# EAGLE library part MAX86171 (library MAX86171)
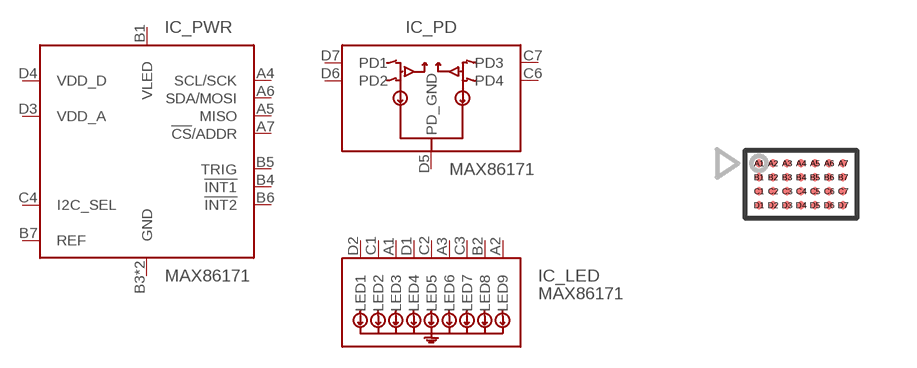
[diagram p0: symbol with the pads of WLP-BGA-7X4-0.35; footprint WLP-BGA-7X4-0.35]

Designator prefix IC; gates _PWR=MAX86171_PWR _PD=MAX86171_PD _LED=MAX86171_LED

## MAX86171 (MF: Maxim Integrated; MPN: MAX86171ENI+), MAX86171T (MF: Maxim Integrated; MPN: MAX86171ENI+T)  [WLP-BGA-7X4-0.35]
A1  _LED:LED3
A2  _LED:LED9
A3  _LED:LED6
A4  _PWR:SCL/SCK
A5  _PWR:MISO
A6  _PWR:SDA/MOSI
A7  _PWR:!CS!/ADDR
B1  _PWR:VLED
B2  _LED:LED8
B3  _PWR:GND  pwr
B4  _PWR:!INT1
B5  _PWR:TRIG  in
B6  _PWR:!INT2
B7  _PWR:REF
C1  _LED:LED2
C2  _LED:LED5
C3  _LED:LED7
C4  _PWR:I2C_SEL
C5  _PWR:GND  pwr
C6  _PD:PD4
C7  _PD:PD3
D1  _LED:LED4
D2  _LED:LED1
D3  _PWR:VDD_A  pwr
D4  _PWR:VDD_D  pwr
D5  _PD:PD_GND
D6  _PD:PD2
D7  _PD:PD1

## Footprint WLP-BGA-7X4-0.35 (pad centres in mm)
smd 0.2 x 0.2: A1 -1.05,0.525; A2 -0.7,0.525; A3 -0.35,0.525; A4 0,0.525; A5 0.35,0.525; A6 0.7,0.525; A7 1.05,0.525; B1 -1.05,0.175; B2 -0.7,0.175; B3 -0.35,0.175; B4 0,0.175; B5 0.35,0.175; B6 0.7,0.175; B7 1.05,0.175; C1 -1.05,-0.175; C2 -0.7,-0.175; C3 -0.35,-0.175; C4 0,-0.175; C5 0.35,-0.175; C6 0.7,-0.175; C7 1.05,-0.175; D1 -1.05,-0.525; D2 -0.7,-0.525; D3 -0.35,-0.525; D4 0,-0.525; D5 0.35,-0.525; D6 0.7,-0.525; D7 1.05,-0.525